# EAGLE library part ADG1206 (library JSB2)
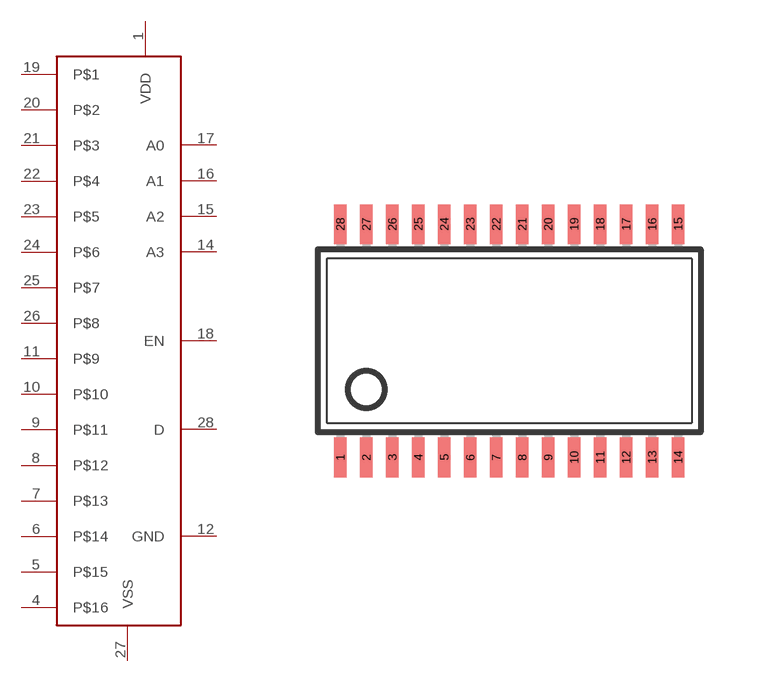
[diagram p2: symbol with the pads of TSSOP28; footprint TSSOP28]

Designator prefix -

## ADG1206  [TSSOP28]
1  VDD
4  P$16
5  P$15
6  P$14
7  P$13
8  P$12
9  P$11
10  P$10
11  P$9
12  GND
14  A3
15  A2
16  A1
17  A0
18  EN
19  P$1
20  P$2
21  P$3
22  P$4
23  P$5
24  P$6
25  P$7
26  P$8
27  VSS
28  D

## Footprint TSSOP28 (pad centres in mm)
Thin Shrink Small Outline Plastic 28 MAX3223-MAX3243.pdf
smd 0.305 x 0.991: 1 -4.225,-2.918; 2 -3.575,-2.918; 3 -2.925,-2.918; 4 -2.275,-2.918; 5 -1.625,-2.918; 6 -0.975,-2.918; 7 -0.325,-2.918; 8 0.325,-2.918; 9 0.975,-2.918; 10 1.625,-2.918; 11 2.275,-2.918; 12 2.925,-2.918; 13 3.575,-2.918; 14 4.225,-2.918; 15 4.225,2.918; 16 3.575,2.918; 17 2.925,2.918; 18 2.275,2.918; 19 1.625,2.918; 20 0.975,2.918; 21 0.325,2.918; 22 -0.325,2.918; 23 -0.975,2.918; 24 -1.625,2.918; 25 -2.275,2.918; 26 -2.925,2.918; 27 -3.575,2.918; 28 -4.225,2.918